# Altium footprint library Lib1.PcbLib: 53 footprints (part 3 of 4)
Each footprint in its own frame and in the unit in brackets; x right, y up, seen from the top. Pads: shape width x height; smd on the part's side, far side on the other; paste and mask are expansions set on the pad; w line width, h text height; cw(c..) or ccw(c..) is an arc to the next point about the centre after c.
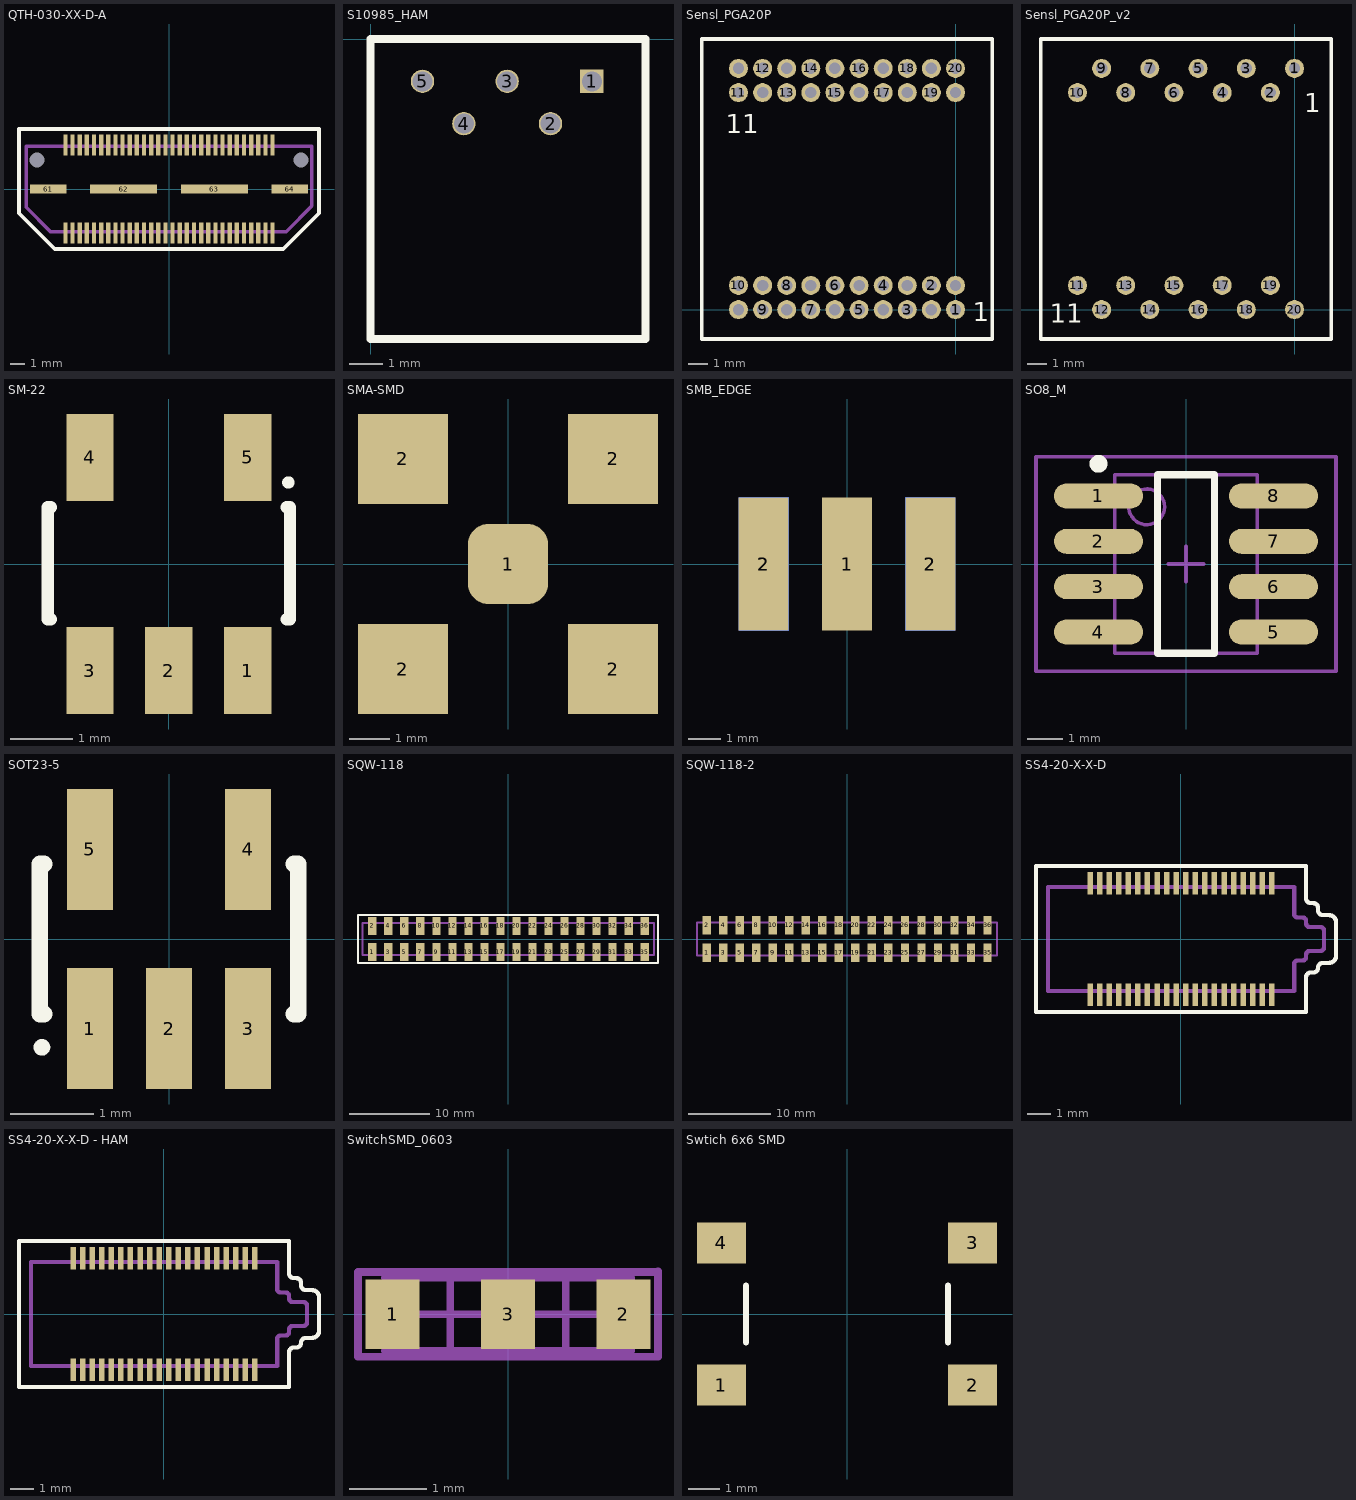
[diagram p2: the footprints below, top view; thin cyan lines are the x and y axes]

## QTH-030-XX-D-A [mm]
pads (66):
  rect 0.3x1.45 smd mask+0.05: 1(-7.25,3.085) 2(-7.25,-3.085) 3(-6.75,3.085) 4(-6.75,-3.085) 5(-6.25,3.085) 6(-6.25,-3.085) 7(-5.75,3.085) 8(-5.75,-3.085) 9(-5.25,3.085) 10(-5.25,-3.085) 11(-4.75,3.085) 12(-4.75,-3.085) 13(-4.25,3.085) 14(-4.25,-3.085) 15(-3.75,3.085) 16(-3.75,-3.085) 17(-3.25,3.085) 18(-3.25,-3.085) 19(-2.75,3.085) 20(-2.75,-3.085) 21(-2.25,3.085) 22(-2.25,-3.085) 23(-1.75,3.085) 24(-1.75,-3.085) 25(-1.25,3.085) 26(-1.25,-3.085) 27(-0.75,3.085) 28(-0.75,-3.085) 29(-0.25,3.085) 30(-0.25,-3.085) 31(0.25,3.085) 32(0.25,-3.085) 33(0.75,3.085) 34(0.75,-3.085) 35(1.25,3.085) 36(1.25,-3.085) 37(1.75,3.085) 38(1.75,-3.085) 39(2.25,3.085) 40(2.25,-3.085) 41(2.75,3.085) 42(2.75,-3.085) 43(3.25,3.085) 44(3.25,-3.085) 45(3.75,3.085) 46(3.75,-3.085) 47(4.25,3.085) 48(4.25,-3.085) 49(4.75,3.085) 50(4.75,-3.085) 51(5.25,3.085) 52(5.25,-3.085) 53(5.75,3.085) 54(5.75,-3.085) 55(6.25,3.085) 56(6.25,-3.085) 57(6.75,3.085) 58(6.75,-3.085) 59(7.25,3.085) 60(7.25,-3.085)
  rect 2.54x0.64 smd mask+0.05: 61(-8.445,0) 64(8.445,0)
  rect 4.7x0.64 smd mask+0.05: 62(-3.175,0) 63(3.175,0)
  round 0 hole 1.02 unplated: 65(-9.24,2.03) 66(9.24,2.03)
Top Overlay:
  lines w0.254: -10.5,-1.7 -8,-4.2 8,-4.2 10.5,-1.7 10.5,4.2 -10.5,4.2 -10.5,-1.7
Mechanical 1:
  lines w0.254: -10,-1.285 -8.3,-2.985 8.2,-2.985 10,-1.185 10,2.985 -10,2.985 -10,-1.285
  text "J1" at -0.446,-0.457 h0.76

## S10985_HAM [mm]
pads (5):
  rect 0.7x0.7 hole 0.6: 1(6.64,-1.27)
  round 0.7 hole 0.6: 2(5.4,-2.54) 3(4.1,-1.27) 4(2.8,-2.54) 5(1.56,-1.27)
Top Overlay:
  lines w0.254: 0,-9 0,0 8.25,0 8.25,-9 0,-9

## Sensl_PGA20P [mm]
pads (40):
  round 1 hole 0.6: 1(0,0) 2(-1.27,1.27) 3(-2.54,0) 4(-3.81,1.27) 5(-5.08,0) 6(-6.35,1.27) 7(-7.62,0) 8(-8.89,1.27) 9(-10.16,0) 10(-11.43,1.27) 11(-11.43,11.43) 12(-10.16,12.7) 13(-8.89,11.43) 14(-7.62,12.7) 15(-6.35,11.43) 16(-5.08,12.7) 17(-3.81,11.43) 18(-2.54,12.7) 19(-1.27,11.43) 20(0,12.7) ""(-11.43,0) ""(-11.43,12.7) ""(-10.16,1.27) ""(-10.16,11.43) ""(-8.89,0) ""(-8.89,12.7) ""(-7.62,1.27) ""(-7.62,11.43) ""(-6.35,0) ""(-6.35,12.7) ""(-5.08,1.27) ""(-5.08,11.43) ""(-3.81,0) ""(-3.81,12.7) ""(-2.54,1.27) ""(-2.54,11.43) ""(-1.27,0) ""(-1.27,12.7) ""(0,1.27) ""(0,11.43)
Top Overlay:
  lines w0.2: -13.37,-1.55 1.94,-1.55 1.94,14.25 -13.37,14.25 -13.37,-1.55
  text "1" at 0.895,-0.613 h1
  text "11" at -12.105,9.287 h1

## Sensl_PGA20P_v2 [mm]
pads (20):
  round 1 hole 0.6: 1(0,12.7) 2(-1.27,11.43) 3(-2.54,12.7) 4(-3.81,11.43) 5(-5.08,12.7) 6(-6.35,11.43) 7(-7.62,12.7) 8(-8.89,11.43) 9(-10.16,12.7) 10(-11.43,11.43) 11(-11.43,1.27) 12(-10.16,0) 13(-8.89,1.27) 14(-7.62,0) 15(-6.35,1.27) 16(-5.08,0) 17(-3.81,1.27) 18(-2.54,0) 19(-1.27,1.27) 20(0,0)
Top Overlay:
  lines w0.2: -13.37,-1.55 -13.37,14.25 1.94,14.25 1.94,-1.55 -13.37,-1.55
  text "11" at -12.9,-0.687 h1
  text "1" at 0.513,10.388 h1

## SM-22 [mm] "SOT-23/SC-74A; 5 Leads; Body 3 x 3 mm, inc. leads (LxW max)"
height 1.45
pads (5):
  rect 0.76x1.4 smd: 1(1.27,-1.715) 2(0,-1.715) 3(-1.27,-1.715) 4(-1.27,1.715) 5(1.27,1.715)
Top Overlay:
  circle w0.1: c1.925,1.312 r0.05
  lines w0.2: -1.9,-0.888 -1.95,-0.888 -1.95,0.913 -1.9,0.913 ; 1.9,-0.888 1.95,-0.888 1.95,0.913 1.9,0.913

## SMA-SMD [mm]
pads (5):
  rrect50% 2x2 smd: 1(0,0)
  rect 2.25x2.25 smd: 2(-2.625,-2.625) 2(-2.625,2.625) 2(2.625,-2.625) 2(2.625,2.625)

## SMB_EDGE [mm] "SOT-23/SC-74A; 5 Leads; Body 3 x 3 mm, inc. leads (LxW max)"
height 1.45
pads (5):
  rect 1.52x4.06 smd: 1(0,0) 2(-2.54,0) 2(2.54,0)
  rect 1.52x4.06 smd far side: 2(-2.54,0) 2(2.54,0)

## SO8_M [mm] "SOIC, 8-Leads, Body 4.9x3.9mm, Pitch 1.27mm, IPC Low Density"
height 1.75
pads (8):
  oval 2.5x0.7 smd: 1(-2.45,1.905) 2(-2.45,0.635) 3(-2.45,-0.635) 4(-2.45,-1.905) 5(2.45,-1.905) 6(2.45,-0.635) 7(2.45,0.635) 8(2.45,1.905)
Top Overlay:
  circle w0.25: c-2.45,2.805 r0.125
  lines w0.2: -0.8,-2.5 0.8,-2.5 0.8,2.5 -0.8,2.5 -0.8,-2.5
Mechanical 13:
  circle w0.1: c-1.1,1.6 r0.5
  lines w0.1: -2,-2.5 2,-2.5 2,2.5 -2,2.5 -2,-2.5
Mechanical 15:
  lines w0.1: -0.5,0 0.5,0 ; 0,-0.5 0,0.5 ; -4.2,-3 4.2,-3 4.2,3 -4.2,3 -4.2,-3
3D body: height 1.75, standoff 0, extent -2,-2.5 2,2.5

## SOT23-5 [mm] "SOT-23/SC-74A; 5 Leads; Body 3 x 3 mm, inc. leads (LxW max)"
height 1.45
pads (5):
  rect 0.55x1.45 smd: 1(-0.95,-1.075) 2(0,-1.075) 3(0.95,-1.075) 4(0.95,1.075) 5(-0.95,1.075)
Top Overlay:
  circle w0.1: c-1.525,-1.3 r0.05
  lines w0.2: -1.5,-0.9 -1.55,-0.9 -1.55,0.9 -1.5,0.9 ; 1.5,-0.9 1.55,-0.9 1.55,0.9 1.5,0.9

## SQW-118 [mil]
pads (36):
  rect 40x88 smd mask+2: 1(-669.29,-64.5) 2(-669.29,64.5) 3(-590.55,-64.5) 4(-590.55,64.5) 5(-511.81,-64.5) 6(-511.81,64.5) 7(-433.07,-64.5) 8(-433.07,64.5) 9(-354.33,-64.5) 10(-354.33,64.5) 11(-275.59,-64.5) 12(-275.59,64.5) 13(-196.85,-64.5) 14(-196.85,64.5) 15(-118.11,-64.5) 16(-118.11,64.5) 17(-39.37,-64.5) 18(-39.37,64.5) 19(39.37,-64.5) 20(39.37,64.5) 21(118.11,-64.5) 22(118.11,64.5) 23(196.85,-64.5) 24(196.85,64.5) 25(275.59,-64.5) 26(275.59,64.5) 27(354.33,-64.5) 28(354.33,64.5) 29(433.07,-64.5) 30(433.07,64.5) 31(511.81,-64.5) 32(511.81,64.5) 33(590.55,-64.5) 34(590.55,64.5) 35(669.29,-64.5) 36(669.29,64.5)
Top Overlay:
  lines w10: -739.21,118.46 734.49,118.46 734.49,-118.46 -738.86,-118.46 -738.86,-27.73 -738.86,118.11 -739.21,118.46
Mechanical 1:
  lines w10: -716,-78.74 -716,78.74 714.49,78.74 714.49,-78.74 -716,-78.74

## SQW-118-2 [mil]
pads (36):
  rect 40x88 smd mask+2: 1(-669.29,-64.5) 2(-669.29,64.5) 3(-590.55,-64.5) 4(-590.55,64.5) 5(-511.81,-64.5) 6(-511.81,64.5) 7(-433.07,-64.5) 8(-433.07,64.5) 9(-354.33,-64.5) 10(-354.33,64.5) 11(-275.59,-64.5) 12(-275.59,64.5) 13(-196.85,-64.5) 14(-196.85,64.5) 15(-118.11,-64.5) 16(-118.11,64.5) 17(-39.37,-64.5) 18(-39.37,64.5) 19(39.37,-64.5) 20(39.37,64.5) 21(118.11,-64.5) 22(118.11,64.5) 23(196.85,-64.5) 24(196.85,64.5) 25(275.59,-64.5) 26(275.59,64.5) 27(354.33,-64.5) 28(354.33,64.5) 29(433.07,-64.5) 30(433.07,64.5) 31(511.81,-64.5) 32(511.81,64.5) 33(590.55,-64.5) 34(590.55,64.5) 35(669.29,-64.5) 36(669.29,64.5)
Mechanical 1:
  lines w10: -716,-78.74 -716,78.74 714.49,78.74 714.49,-78.74 -716,-78.74

## SQW-118-L-D [mil]
pads (36):
  rect 40x88 smd mask+2: 1(-669.29,-64.5) 2(-669.29,64.5) 3(-590.55,-64.5) 4(-590.55,64.5) 5(-511.81,-64.5) 6(-511.81,64.5) 7(-433.07,-64.5) 8(-433.07,64.5) 9(-354.33,-64.5) 10(-354.33,64.5) 11(-275.59,-64.5) 12(-275.59,64.5) 13(-196.85,-64.5) 14(-196.85,64.5) 15(-118.11,-64.5) 16(-118.11,64.5) 17(-39.37,-64.5) 18(-39.37,64.5) 19(39.37,-64.5) 20(39.37,64.5) 21(118.11,-64.5) 22(118.11,64.5) 23(196.85,-64.5) 24(196.85,64.5) 25(275.59,-64.5) 26(275.59,64.5) 27(354.33,-64.5) 28(354.33,64.5) 29(433.07,-64.5) 30(433.07,64.5) 31(511.81,-64.5) 32(511.81,64.5) 33(590.55,-64.5) 34(590.55,64.5) 35(669.29,-64.5) 36(669.29,64.5)
Top Layer:
  lines w10: -100009,169.29 -99989,169.29 ; -99999,159.29 -99999,179.29
  text "-99999,169.291 (mil)" at -99989,169.29 h60
Top Overlay:
  lines w10: -739.21,118.46 -738.86,118.11 -738.86,-27.73 -738.86,-118.46 734.49,-118.46 734.49,118.46 -739.21,118.46
Mechanical 1:
  lines w10: -716,-78.74 714.49,-78.74 714.49,78.74 -716,78.74 -716,-78.74

## SS4-20-X-X-D [mm]
pads (40):
  rect 0.23x0.93 smd paste-0.02 mask+0.05: 1(3.8,-2.335) 2(3.4,-2.335) 3(3,-2.335) 4(2.6,-2.335) 5(2.2,-2.335) 6(1.8,-2.335) 7(1.4,-2.335) 8(1,-2.335) 9(0.6,-2.335) 10(0.2,-2.335) 11(-0.2,-2.335) 12(-0.6,-2.335) 13(-1,-2.335) 14(-1.4,-2.335) 15(-1.8,-2.335) 16(-2.2,-2.335) 17(-2.6,-2.335) 18(-3,-2.335) 19(-3.4,-2.335) 20(-3.8,-2.335) 21(-3.8,2.335) 22(-3.4,2.335) 23(-3,2.335) 24(-2.6,2.335) 25(-2.2,2.335) 26(-1.8,2.335) 27(-1.4,2.335) 28(-1,2.335) 29(-0.6,2.335) 30(-0.2,2.335) 31(0.2,2.335) 32(0.6,2.335) 33(1,2.335) 34(1.4,2.335) 35(1.8,2.335) 36(2.2,2.335) 37(2.6,2.335) 38(3,2.335) 39(3.4,2.335) 40(3.8,2.335)
Top Overlay:
  lines w0.178: -6.06,-3.054 5.228,-3.054 5.228,-1.6 cw(c5.428,-1.6) 5.428,-1.4 5.53,-1.4 ccw(c5.53,-1.2) 5.73,-1.2 cw(c5.93,-1.2) 5.93,-1 6.18,-1 ccw(c6.18,-0.7) 6.48,-0.7 6.48,0.7 ccw(c6.18,0.7) 6.18,1 5.93,1 cw(c5.93,1.2) 5.73,1.2 5.73,1.3 ccw(c5.53,1.3) 5.53,1.5 5.428,1.5 cw(c5.428,1.7) 5.228,1.7 5.228,3.054 -6.06,3.054 -6.06,-3.054
Mechanical 1:
  lines w0.178: -5.56,-2.175 4.73,-2.175 4.73,-1.05 cw(c4.88,-1.05) 4.88,-0.9 5.08,-0.9 ccw(c5.08,-0.75) 5.23,-0.75 5.23,-0.65 cw(c5.38,-0.65) 5.38,-0.5 5.83,-0.5 ccw(c5.83,-0.35) 5.98,-0.35 5.98,0.35 ccw(c5.83,0.35) 5.83,0.5 5.38,0.5 cw(c5.38,0.65) 5.23,0.65 5.23,0.75 ccw(c5.08,0.75) 5.08,0.9 4.88,0.9 cw(c4.88,1.05) 4.73,1.05 4.73,2.175 -5.56,2.175 -5.56,-2.175
  text "J1" at -0.497,-0.508 h0.76

## SS4-20-X-X-D - HAM [mm]
pads (40):
  rect 0.23x0.93 smd paste-0.02 mask+0.05: 1(3.8,2.335) 2(3.4,2.335) 3(3,2.335) 4(2.6,2.335) 5(2.2,2.335) 6(1.8,2.335) 7(1.4,2.335) 8(1,2.335) 9(0.6,2.335) 10(0.2,2.335) 11(-0.2,2.335) 12(-0.6,2.335) 13(-1,2.335) 14(-1.4,2.335) 15(-1.8,2.335) 16(-2.2,2.335) 17(-2.6,2.335) 18(-3,2.335) 19(-3.4,2.335) 20(-3.8,2.335) 21(-3.8,-2.335) 22(-3.4,-2.335) 23(-3,-2.335) 24(-2.6,-2.335) 25(-2.2,-2.335) 26(-1.8,-2.335) 27(-1.4,-2.335) 28(-1,-2.335) 29(-0.6,-2.335) 30(-0.2,-2.335) 31(0.2,-2.335) 32(0.6,-2.335) 33(1,-2.335) 34(1.4,-2.335) 35(1.8,-2.335) 36(2.2,-2.335) 37(2.6,-2.335) 38(3,-2.335) 39(3.4,-2.335) 40(3.8,-2.335)
Top Overlay:
  lines w0.178: -6.06,-3.054 -6.06,3.054 5.228,3.054 5.228,1.7 ccw(c5.428,1.7) 5.428,1.5 5.53,1.5 cw(c5.53,1.3) 5.73,1.3 5.73,1.2 ccw(c5.93,1.2) 5.93,1 6.18,1 cw(c6.18,0.7) 6.48,0.7 6.48,-0.7 cw(c6.18,-0.7) 6.18,-1 5.93,-1 ccw(c5.93,-1.2) 5.73,-1.2 cw(c5.53,-1.2) 5.53,-1.4 5.428,-1.4 ccw(c5.428,-1.6) 5.228,-1.6 5.228,-3.054 -6.06,-3.054
Mechanical 1:
  lines w0.178: -5.56,-2.175 -5.56,2.175 4.73,2.175 4.73,1.05 ccw(c4.88,1.05) 4.88,0.9 5.08,0.9 cw(c5.08,0.75) 5.23,0.75 5.23,0.65 ccw(c5.38,0.65) 5.38,0.5 5.83,0.5 cw(c5.83,0.35) 5.98,0.35 5.98,-0.35 cw(c5.83,-0.35) 5.83,-0.5 5.38,-0.5 ccw(c5.38,-0.65) 5.23,-0.65 5.23,-0.75 cw(c5.08,-0.75) 5.08,-0.9 4.88,-0.9 ccw(c4.88,-1.05) 4.73,-1.05 4.73,-2.175 -5.56,-2.175
  text "J1" at -0.497,-0.508 h0.76

## SwitchSMD_0603 [mm] "3 pins 0603"
pads (3):
  rect 0.7x0.9 smd: 1(-1.5,0) 2(1.5,0) 3(0,0)
Mechanical 13:
  lines w0.1: -1.6,-0.475 1.6,-0.475 1.6,0.475 -0.1,0.475 ; -1.6,0.475 -0.1,0.475 ; -0.1,-0.475 -0.1,0.475
Mechanical 15:
  lines w0.1: -1.225,0 -0.275,0 ; -0.75,-0.475 -0.75,0.475 ; 0.275,0 1.225,0 ; 0.75,-0.475 0.75,0.475 ; 1.95,0.55 -1.95,0.55 -1.95,-0.55 1.95,-0.55 1.95,0.559
3D body: height 0.9, standoff 0, extent -1.6,-0.475 1.6,0.475

## Swtich 6x6 SMD [mm] "Switch 4 leads 6 x 6 mm, SMD"
height 1.45
pads (4):
  rect 1.55x1.3 smd: 1(-3.975,-2.25) 2(3.975,-2.25) 3(3.975,2.25) 4(-3.975,2.25)
Top Overlay:
  lines w0.2: -3.2,-0.9 -3.2,0.9 ; 3.2,-0.9 3.2,0.9